# Altium footprint library pcblib.PcbLib: 1 footprints
Each footprint in its own frame and in the unit in brackets; x right, y up, seen from the top. Pads: shape width x height; smd on the part's side, far side on the other; paste and mask are expansions set on the pad; w line width, h text height; cw(c..) or ccw(c..) is an arc to the next point about the centre after c.
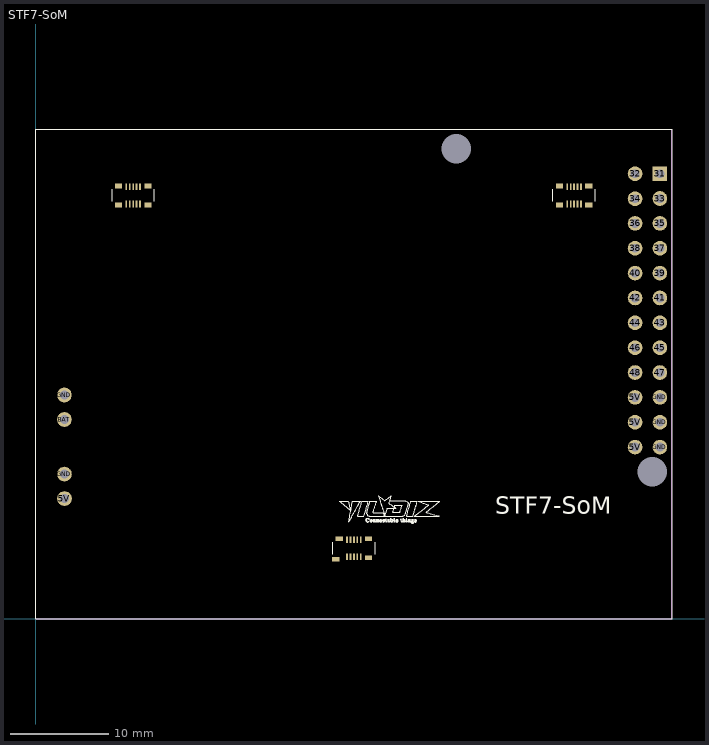
[diagram p0: the footprint, top view; thin cyan lines are the x and y axes]

## STF7-SoM [mm] "Yildiz IoT STM32F7 System On Module"
pads (72):
  rect 0.18x0.69 smd: 1(33.2,6.325) 2(33.2,8.075) 3(32.85,6.325) 4(32.85,8.075) 5(32.5,6.325) 6(32.5,8.075) 7(32.15,6.325) 8(32.15,8.075) 9(31.8,6.325) 10(31.8,8.075) 11(55.7,42.375) 12(55.7,44.125) 13(55.35,42.375) 14(55.35,44.125) 15(55,42.375) 16(55,44.125) 17(54.65,42.375) 18(54.65,44.125) 19(54.3,42.375) 20(54.3,44.125) 21(10.65,42.375) 22(10.65,44.125) 23(10.3,42.375) 24(10.3,44.125) 25(9.95,42.375) 26(9.95,44.125) 27(9.6,42.375) 28(9.6,44.125) 29(9.25,42.375) 30(9.25,44.125)
  round 1.5 hole 0.9: 5V(2.931,12.272) 5V(61.23,17.53) 5V(61.23,20.07) 5V(61.23,22.61) 32(61.23,45.47) 33(63.77,42.93) 34(61.23,42.905) 35(63.77,40.39) 36(61.23,40.39) 37(63.77,37.85) 38(61.23,37.85) 39(63.77,35.31) 40(61.23,35.31) 41(63.77,32.77) 42(61.23,32.77) 43(63.77,30.23) 44(61.23,30.23) 45(63.77,27.69) 46(61.23,27.69) 47(63.77,25.15) 48(61.23,25.15) BAT(2.925,20.35) GND(2.92,22.853) GND(2.926,14.775) GND(63.77,17.53) GND(63.77,20.07) GND(63.77,22.61)
  rect 0.73x0.49 smd: 5V(8.45,42.275) 5V(8.45,44.225) 5V(30.65,6.075) 5V(31,8.175) 5V(53.5,42.275) 5V(53.5,44.225) GND(11.45,42.275) GND(11.45,44.225) GND(34,6.225) GND(34,8.175) GND(56.5,42.275) GND(56.5,44.225)
  rect 1.5x1.5 hole 0.9: 31(63.77,45.47)
  round 2 hole 3: ""(42.975,48) ""(62.975,15)
Top Overlay:
  drawing of 2293 lines, arcs and shapes, not listed
  text "STF7-SoM" at 46.97,10.12 h3
Mechanical 1:
  lines w0.1: 0,0 65,0 65,50 0,50 0,0
3D body "HIROSE BM24-10DP.stp": height 2.14, standoff 1.48, extent 30.34,6.125 34.66,8.145
3D body "HIROSE BM24-10DP.stp": height 2.14, standoff 1.48, extent 7.84,42.125 12.16,44.145
3D body "HIROSE BM24-10DP.stp": height 2.14, standoff 1.48, extent 52.84,42.1 57.16,44.12
3D body "ST7-SoM.step": height 7, standoff -3.4, extent 0,-1.085 65,50.8